# Altium footprint library Ascii of Main Board V1.1.PcbLib: 40 footprints (part 2 of 3)
Each footprint in its own frame and in the unit in brackets; x right, y up, seen from the top. Pads: shape width x height; smd on the part's side, far side on the other; paste and mask are expansions set on the pad; w line width, h text height; cw(c..) or ccw(c..) is an arc to the next point about the centre after c.
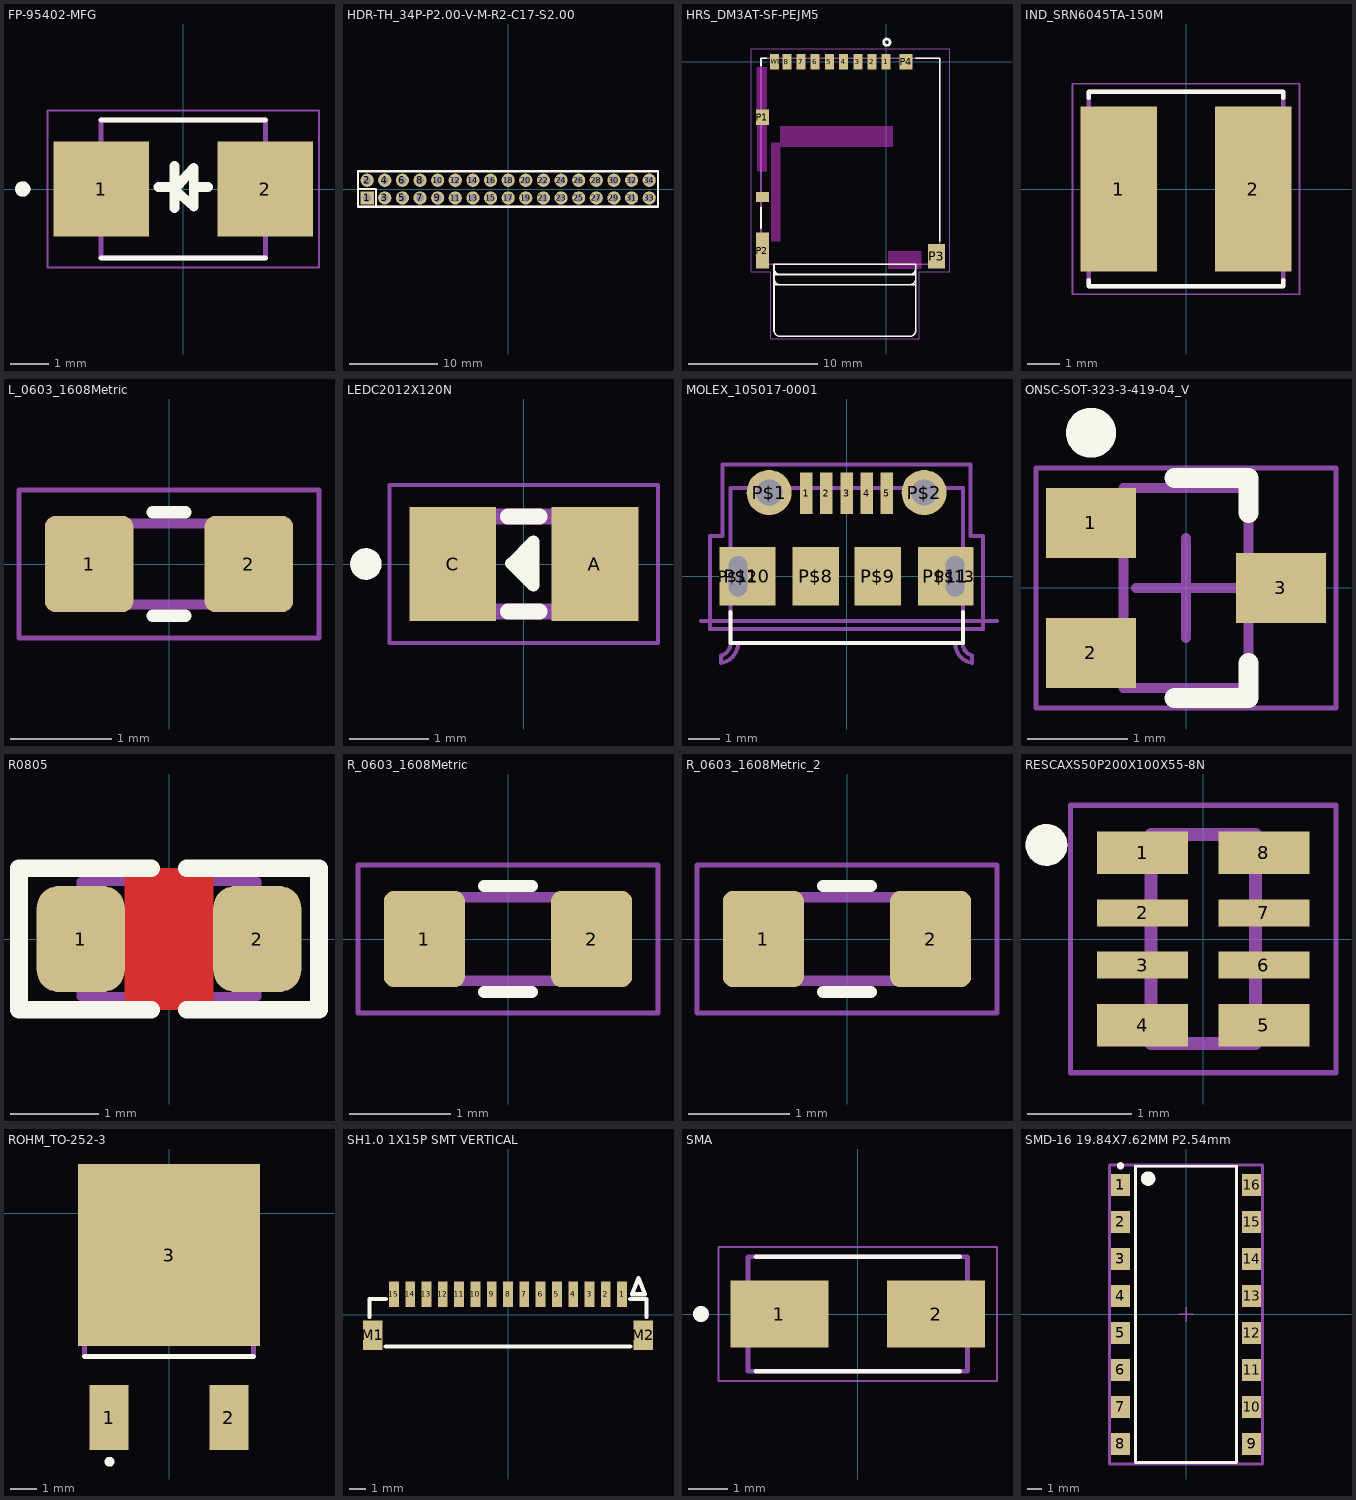
[diagram p1: the footprints below, top view; thin cyan lines are the x and y axes]

## FP-95402-MFG [mm]
pads (2):
  rect 2.5x2.5 smd: 1(-2.15,0) 2(2.15,0)
Top Overlay:
  circle w0.2: c-4.2,0 r0.1
  lines w0.127: -2.157,-1.81 2.157,-1.81 ; -2.157,1.81 2.157,1.81
  lines w0.254: -0.65,0.05 -0.275,0.05 ; -0.227,-0.5 -0.233,-0.014 ; -0.227,0.6 -0.233,-0.014 ; 0.275,0.05 0.65,0.05 ; -0.233,-0.014 0.275,-0.458 0.275,0.558 -0.233,-0.014
Mechanical 13:
  circle w0.2: c-4.2,0 r0.1
  lines w0.127: -2.157,-1.81 -2.157,1.81 2.157,1.81 2.157,-1.81 -2.157,-1.81
Mechanical 15:
  lines w0.05: -3.555,-2.06 -3.555,2.06 3.555,2.06 3.555,-2.06 -3.555,-2.06
3D body "step_temp.STEP": height 2.46, standoff 0, extent -2.718,-1.778 2.718,1.778

## HDR-TH_34P-P2.00-V-M-R2-C17-S2.00 [mm]
pads (34):
  rect 1.5x1.5 hole 0.9: 1(-16,-1)
  round 1.5 hole 0.9: 2(-16,1) 3(-14,-1) 4(-14,1) 5(-12,-1) 6(-12,1) 7(-10,-1) 8(-10,1) 9(-8,-1) 10(-8,1) 11(-6,-1) 12(-6,1) 13(-4,-1) 14(-4,1) 15(-2,-1) 16(-2,1) 17(0,-1) 18(0,1) 19(2,-1) 20(2,1) 21(4,-1) 22(4,1) 23(6,-1) 24(6,1) 25(8,-1) 26(8,1) 27(10,-1) 28(10,1) 29(12,-1) 30(12,1) 31(14,-1) 32(14,1) 33(16,-1) 34(16,1)
Top Overlay:
  lines w0.254: -17.038,-1.989 -17.038,2.011 ; -17,-1.999 17,-1.999 ; -17,0 -15,0 -15,-1.999 ; -17,2.021 17,2.021 ; 17,-1.991 17,2.009
Mechanical 13:
  lines w0.2: -17.038,-1.989 16.99,-1.989 17,-1.979 17,2.021 -17.038,2.021 -17.038,-1.989
3D body: height 4.5, standoff -2, extent -17,-2.03 17,2.03

## HRS_DM3AT-SF-PEJM5 [mm]
pads (14):
  rect 0.7x1.2 smd: 1(0,0) 2(-1.1,0) 3(-2.2,0) 4(-3.3,0) 5(-4.4,0) 6(-5.5,0) 7(-6.6,0) 8(-7.7,0) SWB(-8.65,0)
  rect 1x1.2 smd: P1(-9.6,-4.3) P4(1.55,0)
  rect 1x2.8 smd: P2(-9.6,-14.65)
  rect 1.3x1.9 smd: P3(3.9,-15.1)
  rect 1x0.8 smd: SWA(-9.6,-10.5)
Top Overlay:
  circle w0.2: c0.05,1.5 r0.25
  lines w0.127: -9.7,-12.9 -9.7,-11.3 ; -9.7,-0.3 -9.7,0.25 -9.25,0.25 ; 2.3,0.25 4.15,0.25 4.15,-13.9 ; -8.7,-17.3 -8.2,-17.3 ; -8.7,-17.3 -8.7,-16.8 ; -8.7,-17.3 -8.7,-20.8 ccw(c-8.2,-20.8) -8.2,-21.3 1.8,-21.3 ccw(c1.8,-20.8) 2.3,-20.8 2.3,-17.3 ; -8.7,-16.8 ccw(c-8.2,-16.8) -8.2,-17.3 ; -8.7,-16.8 -8.7,-16.5 ; -8.7,-16.5 -8.2,-16.5 ; -8.7,-16.5 -8.7,-16 ; -8.7,-16 ccw(c-8.2,-16) -8.2,-16.5 ; -8.7,-16 -8.7,-15.7 2.3,-15.7 2.3,-16 ; -8.2,-17.3 1.8,-17.3 ; -8.2,-16.5 1.8,-16.5 ; 1.8,-17.3 ccw(c1.8,-16.8) 2.3,-16.8 ; 1.8,-17.3 2.3,-17.3 ; 1.8,-16.5 ccw(c1.8,-16) 2.3,-16 ; 1.8,-16.5 2.3,-16.5 ; 2.3,-17.3 2.3,-16.8 ; 2.3,-16.8 2.3,-16.5 ; 2.3,-16.5 2.3,-16
Keep-Out Layer:
  region: -9.25,-3.707 -10.013,-3.707 -10.013,-0.45 -9.25,-0.45
  region: -9.25,-8.505 -10.004,-8.505 -10.004,-4.9 -9.25,-4.9
  region: -8.2,-13.915 -8.906,-13.915 -8.906,-6.3 -8.2,-6.3
  region: 0.5,-6.604 -8.203,-6.604 -8.203,-5 0.5,-5
  region: 2.7,-16.057 0.151,-16.057 0.151,-14.7 2.7,-14.7
Mechanical 13:
  lines w0.127: -9.7,-15.7 4.15,-15.7 4.15,0.25 -9.7,0.25 -9.7,-15.7
  text "PCB Edge" at -4.758,-15.525 h0.61
Mechanical 15:
  lines w0.05: -10.45,-16.3 -8.95,-16.3 -8.95,-21.5 2.55,-21.5 2.55,-16.3 4.925,-16.3 4.925,1 -10.45,1 -10.45,-16.3
3D body: height 1.68, standoff 0, extent -9.685,-15.769 4.165,0.381

## IND_SRN6045TA-150M [mm]
pads (2):
  rect 2.35x5.1 smd: 1(-2.075,0) 2(2.075,0)
Top Overlay:
  lines w0.127: -3,-2.8 -3,-3 3,-3 3,-2.8 ; -3,2.8 -3,3 3,3 3,2.8
Mechanical 13:
  lines w0.127: -3,-3 -3,3 3,3 3,-3 -3,-3
Mechanical 15:
  lines w0.05: -3.5,-3.25 -3.5,3.25 3.5,3.25 3.5,-3.25 -3.5,-3.25
3D body: height 4.2, standoff 0, extent -3,-3 3,3

## L_0603_1608Metric [mm]
pads (2):
  rrect25% 0.875x0.95 smd mask+0: 1(-0.787,0) 2(0.787,0)
Top Overlay:
  lines w0.12: -0.163,-0.51 0.163,-0.51 ; -0.163,0.51 0.163,0.51
Bottom 3D Body:
  lines w0.05: -1.48,-0.73 1.48,-0.73 1.48,0.73 -1.48,0.73 -1.48,-0.73
Mechanical 6:
  lines w0.1: -0.8,-0.4 0.8,-0.4 0.8,0.4 -0.8,0.4 -0.8,-0.4
3D body: height 1, standoff 0, extent -0.8,-0.4 0.8,0.4

## LEDC2012X120N [mm]
pads (2):
  rect 1.1x1.45 smd: A(0.9,0) C(-0.9,0)
Top Overlay:
  circle w0.2: c-2,0 r0.1
  region: 0.12,0.285 -0.16,0.005 0.12,-0.275
  lines w0.152: -0.16,0.005 0.12,0.285 0.12,-0.275 -0.16,0.005
  lines w0.2: -0.2,-0.6 0.2,-0.6 ; -0.2,0.6 0.2,0.6
Mechanical 13:
  region: -0.5,-0.6 -1,-0.6 -1,0.6 -0.5,0.6
  region: 1,-0.6 0.5,-0.6 0.5,0.6 1,0.6
  lines w0.2: -1,-0.6 1,-0.6 1,0.6 -1,0.6 -1,-0.6
Mechanical 15:
  lines w0.05: -1.7,-1 1.7,-1 1.7,1 -1.7,1 -1.7,-1
3D body: height 0.8, standoff -0.01, extent -1,-0.625 1,0.626

## MOLEX_105017-0001 [mm]
pads (13):
  rect 0.4x1.35 smd: 1(-1.3,2.675) 2(-0.65,2.675) 3(0,2.675) 4(0.65,2.675) 5(1.3,2.675)
  round 1.45 hole 0.85: P$1(-2.5,2.7) P$2(2.5,2.7)
  rect 1.5x1.9 smd: P$8(-1,0) P$9(1,0)
  rect 1.8x1.9 smd: P$10(-3.2,0) P$11(3.2,0)
  oval 0.8x1.6 hole 0.6 slot 1.3 at 90 deg: P$12(-3.5,0) P$13(3.5,0)
Top Overlay:
  lines w0.127: -3.75,-1.15 -3.75,-2.15 3.75,-2.15 3.75,-1.15
Mechanical 13:
  lines w0.127: -4.7,-1.45 4.85,-1.45 ; -4.05,-2.8 -4.05,-2.55 ; -4.049,-2.55 ccw(c-4.128,-2.179) -3.75,-2.153 ; -4.047,-2.8 ccw(c-4.162,-2.147) -3.5,-2.147 ; -3.75,-2.15 -3.75,2.85 3.75,2.85 3.75,-2.15 ; 3.5,-2.147 ccw(c4.162,-2.147) 4.047,-2.8 ; 3.75,-2.153 ccw(c4.128,-2.179) 4.049,-2.55 ; 4.05,-2.8 4.05,-2.55
Mechanical 15:
  lines w0.127: -4.4,-1.7 -4.4,1.3 -4,1.3 -4,3.6 4,3.6 4,1.3 4.4,1.3 4.4,-1.7 -4.4,-1.7
3D body: height 2.63, standoff -0.67, extent -4.1,-2.75 4.1,2.65

## ONSC-SOT-323-3-419-04_V [mm] "SOT23, 3-Leads, Body 2x1.25mm, Pitch 0.65mm"
height 1
pads (3):
  rect 0.9x0.7 smd: 1(-0.95,0.65) 2(-0.95,-0.65) 3(0.95,0)
Top Overlay:
  circle w0.25: c-0.95,1.55 r0.125
  lines w0.2: -0.113,-1.1 0.625,-1.1 0.625,-0.75 ; -0.113,1.1 0.625,1.1 0.625,0.75
Mechanical 13:
  lines w0.1: -0.625,-1 -0.625,1 0.625,1 0.625,-1 -0.625,-1
Mechanical 15:
  lines w0.05: -1.5,-1.2 -1.5,1.2 1.5,1.2 1.5,-1.2 -1.5,-1.2
  lines w0.1: -0.5,0 0.5,0 ; 0,-0.5 0,0.5
3D body: height 1, standoff 0, extent -0.625,-1 0.625,1

## R0805 [mm] "CHIP RESISTOR 1/8 WATT ,2.0X1.3mm, 0805, 2012"
pads (2):
  rrect50% 1x1.2 smd paste-5 mask+0.075: 1(-1,0) 2(1,0)
Top Layer:
  pour cut-out: -0.5,0.8 0.5,0.8 0.5,-0.8 -0.5,-0.8
Top Overlay:
  lines w0.2: -0.2,-0.8 -1.7,-0.8 -1.7,0.8 -0.2,0.8 ; 0.2,-0.8 1.7,-0.8 1.7,0.8 0.2,0.8
Top Paste:
  region: 0.9,0.5 0.82,0.5 0.673,0.439 0.561,0.327 0.5,0.18 0.5,0.1 0.5,-0.1 0.5,-0.18 0.561,-0.327 0.673,-0.439 0.82,-0.5 0.9,-0.5 1.15,-0.5 1.18,-0.5 1.235,-0.477 1.277,-0.435 1.3,-0.38 1.3,-0.35 1.3,0.35 1.3,0.38 1.277,0.435 1.235,0.477 1.18,0.5 1.15,0.5
  region: -0.9,0.5 -0.82,0.5 -0.673,0.439 -0.561,0.327 -0.5,0.18 -0.5,0.1 -0.5,-0.1 -0.5,-0.18 -0.561,-0.327 -0.673,-0.439 -0.82,-0.5 -0.9,-0.5 -1.15,-0.5 -1.18,-0.5 -1.235,-0.477 -1.277,-0.435 -1.3,-0.38 -1.3,-0.35 -1.3,0.35 -1.3,0.38 -1.277,0.435 -1.235,0.477 -1.18,0.5 -1.15,0.5
Mechanical 13:
  lines w0.1: -1,-0.65 1,-0.65 1,0.65 -1,0.65 -1,-0.65
3D body "User Library-RES_2013-0805.step": height 0.76, standoff 0, extent -1.15,-0.675 1.15,0.675

## R_0603_1608Metric [mm]
pads (2):
  rrect25% 0.8x0.95 smd: 1(-0.825,0) 2(0.825,0)
Top Overlay:
  lines w0.12: -0.237,-0.523 0.237,-0.523 ; -0.237,0.523 0.237,0.523
Bottom 3D Body:
  lines w0.05: -1.48,-0.73 -1.48,0.73 1.48,0.73 1.48,-0.73 -1.48,-0.73
Mechanical 6:
  lines w0.1: -0.8,-0.413 -0.8,0.413 0.8,0.413 0.8,-0.413 -0.8,-0.413
3D body "User Library-RES_1609-0603.step": height 0.56, standoff 0, extent -0.85,-0.4 0.85,0.4

## R_0603_1608Metric_2 [mm]
pads (2):
  rrect25% 0.8x0.95 smd mask+0: 1(-0.825,0) 2(0.825,0)
Top Overlay:
  lines w0.12: -0.237,-0.523 0.237,-0.523 ; -0.237,0.523 0.237,0.523
Bottom 3D Body:
  lines w0.05: -1.48,-0.73 -1.48,0.73 1.48,0.73 1.48,-0.73 -1.48,-0.73
Mechanical 6:
  lines w0.1: -0.8,-0.413 -0.8,0.413 0.8,0.413 0.8,-0.413 -0.8,-0.413
3D body "User Library-RES_1609-0603.step": height 0.56, standoff 0, extent -0.85,-0.4 0.85,0.4

## RESCAXS50P200X100X55-8N [mm]
pads (8):
  rect 0.87x0.41 smd: 1(-0.58,0.825) 4(-0.58,-0.825) 5(0.58,-0.825) 8(0.58,0.825)
  rect 0.87x0.26 smd: 2(-0.58,0.25) 3(-0.58,-0.25) 6(0.58,-0.25) 7(0.58,0.25)
Top Overlay:
  circle w0.2: c-1.5,0.9 r0.1
Mechanical 13:
  circle w0.2: c-1.5,0.9 r0.1
  lines w0.127: -0.5,-1 0.5,-1 0.5,1 -0.5,1 -0.5,-1
Mechanical 15:
  lines w0.05: -1.27,-1.28 1.27,-1.28 1.27,1.28 -1.27,1.28 -1.27,-1.28
3D body: height 0.45, standoff 0, extent -0.5,-1 0.5,1

## ROHM_TO-252-3 [mm]
pads (3):
  rect 1.5x2.5 smd: 1(-2.3,-7.85) 2(2.3,-7.85)
  rect 7x7 smd: 3(0,-1.6)
Top Overlay:
  circle w0.2: c-2.288,-9.545 r0.089
  lines w0.2: -3.25,-5.5 3.25,-5.5
Mechanical 13:
  lines w0.2: -3.25,-5.5 3.25,-5.5 3.25,0 -3.25,0 -3.25,-5.5
3D body "BA033CC0FP-E2.stp": height 2.3, standoff 0, extent -3.25,-8.62 3.25,0.88

## SH1.0 1X15P SMT VERTICAL [mm]
pads (17):
  rect 0.6x1.55 smd: 1(7,1.263) 2(6,1.263) 3(5,1.263) 4(4,1.263) 5(3,1.263) 6(2,1.263) 7(1,1.263) 8(0,1.263) 9(-1,1.263) 10(-2,1.263) 11(-3,1.263) 12(-4,1.263) 13(-5,1.263) 14(-6,1.263) 15(-7,1.263)
  rect 1.2x1.8 smd: M1(-8.3,-1.262) M2(8.3,-1.262)
Top Overlay:
  lines w0.254: -8.5,-0.137 -8.5,0.963 -7.5,0.963 ; -7.5,-1.937 7.5,-1.937 ; 7.5,0.963 8.5,0.963 8.5,-0.137 ; 7.6,1.262 8,2.262 8.4,1.262 7.6,1.262

## SMA [mm]
pads (2):
  rect 2.5x1.7 smd: 1(-2,0) 2(2,0)
Top Overlay:
  circle w0.2: c-4,0 r0.1
  lines w0.127: -2.6,-1.46 2.6,-1.46 ; -2.6,1.46 2.6,1.46
Mechanical 13:
  circle w0.2: c-4,0 r0.1
  lines w0.127: -2.8,-1.46 2.8,-1.46 2.8,1.46 -2.8,1.46 -2.8,-1.46
Mechanical 15:
  lines w0.05: -3.55,-1.71 3.55,-1.71 3.55,1.71 -3.55,1.71 -3.55,-1.71
3D body "B340A-13-F.STEP": height 2.62, standoff 0, extent -2.57,-1.28 2.57,1.28

## SMD-16 19.84X7.62MM P2.54mm [mm]
pads (16):
  rect 1.3x1.5 smd paste+0 mask+0: 1(-4.5,8.89) 2(-4.5,6.35) 3(-4.5,3.81) 4(-4.5,1.27) 5(-4.5,-1.27) 6(-4.5,-3.81) 7(-4.5,-6.35) 8(-4.5,-8.89) 9(4.5,-8.89) 10(4.5,-6.35) 11(4.5,-3.81) 12(4.5,-1.27) 13(4.5,1.27) 14(4.5,3.81) 15(4.5,6.35) 16(4.5,8.89)
Top Overlay:
  circle w0.25: c-4.5,10.2 r0.125
  circle w0.5: c-2.6,9.325 r0.25
  lines w0.2: -3.475,-10.17 -3.475,10.17 3.475,10.17 3.475,-10.17 -3.475,-10.17
Top Assembly:
  lines w0.2: -5.25,-10.27 -5.25,10.27 5.25,10.27 5.25,-10.27 -5.25,-10.27
Top Component Center:
  lines w0.15: -3.5,-10.17 -3.5,10.17 3.5,10.17 3.5,-10.17 -3.5,-10.17
Mechanical 15:
  lines w0.1: -0.5,0 0.5,0 ; 0,-0.5 0,0.5
  lines w0.2: -5.25,-10.27 -5.25,10.27 5.25,10.27 5.25,-10.27 -5.25,-10.27
3D body: height 0.25, standoff 0, extent -5.25,-10.27 5.25,10.27